# EAGLE library part CONN_15-2-2MT (library open-bldc)
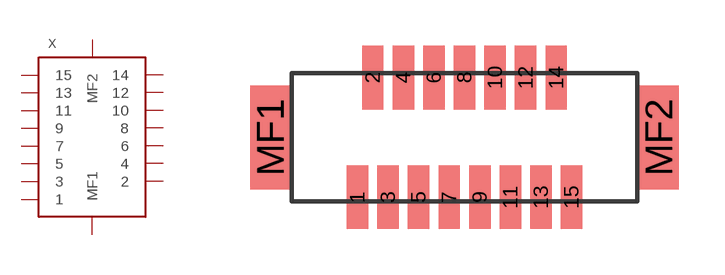
[diagram p24: symbol with the pads of DF9-15; footprint DF9-15]

Designator prefix X

## CONN_15-2-2MT-DF9  [DF9-15]
1  1
2  2
3  3
4  4
5  5
6  6
7  7
8  8
9  9
10  10
11  11
12  12
13  13
14  14
15  15
MF1  MF1
MF2  MF2

## Footprint DF9-15 (pad centres in mm)
smd 0.7 x 2.08: 1 -3.5,-1.96; 2 -3,1.96; 3 -2.5,-1.96; 4 -2,1.96; 5 -1.5,-1.96; 6 -1,1.96; 7 -0.5,-1.96; 8 0,1.96; 9 0.5,-1.96; 10 1,1.96; 11 1.5,-1.96; 12 2,1.96; 13 2.5,-1.96; 14 3,1.96; 15 3.5,-1.96
smd 1.3 x 3.4: MF1 -6.35,0; MF2 6.35,0